# Altium schematic symbol library WCAP-PSHP.SchLib: 55 symbols (part 1 of 2)
Pins are listed as number, name and electrical type; pins without a type are passive.

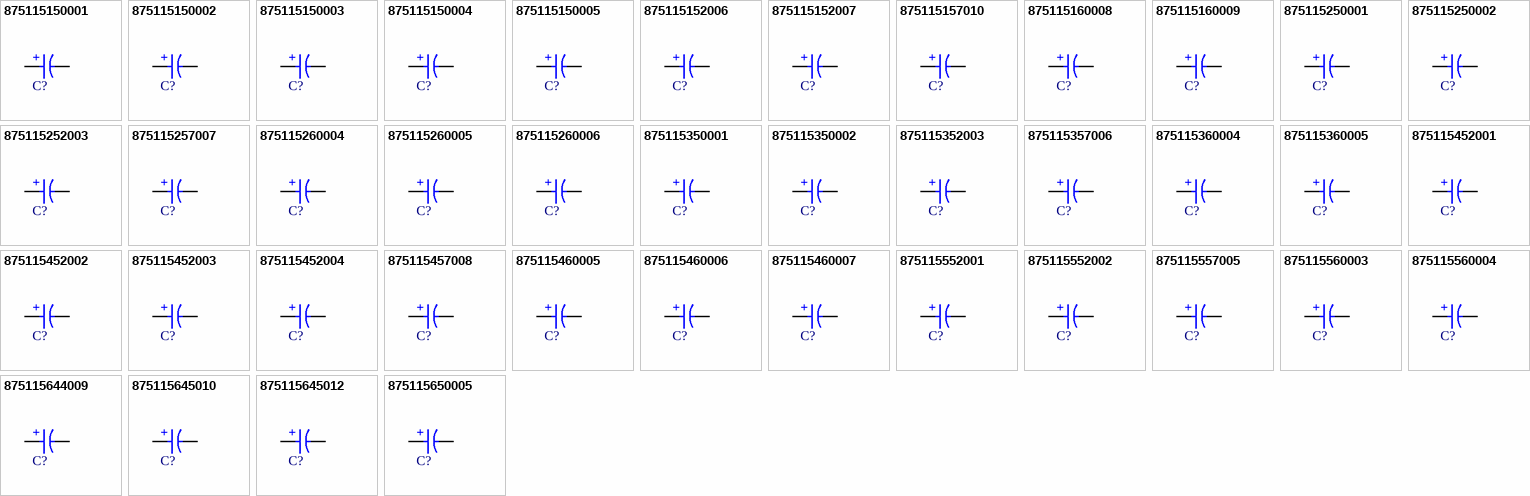
[diagram p0: symbols 875115150001 to 875115650005]

## 875115150001
designator C?, comment 220µF  (value not drawn)
WCAP-PSHP Aluminum Polymer Capacitor, V-Chip, SMT, D8 x H7.7mm, 220µF, 6.3V; Manufacturer Part Number: 875115150001; Manufacturer: Wurth Elektronik; Capacitance Tolerance: +/-20%; Dissipation Factor: 8%; Endurance: 2000h; ESR: 20mΩ; Leakage Current: 277.2µA; Ripple Current: 3500mA; Technical Reference: PSEE077221M6R3DVCTDB000; Category: Aluminum Polymer Capacitors; Match Code: WCAP-PSHP; ComponentLink1Description: Website Link; ComponentLink1URL: https://www.we-online.com/redexpert/article/875115150001?ad; ComponentLink2Description: Datasheet Link; ComponentLink2URL: https://www.we-online.com/redexpert/spec/875115150001?ad; Mount: Surface Mount; Operating Temperature Max: 105°C; Operating Temperature Min: -55°C; Packaging: Tape and Reel; Height: 7.7mm; Diameter: 8mm; Capacitance: 220µF; Rated Voltage (DC): 6.3V
footprint WCAP-PSHP_D8H7.7
simulation model 875115150001_220uF
pins: 1 P, 2 N
text: +

## 875115150002
designator C?, comment 270µF  (value not drawn)
WCAP-PSHP Aluminum Polymer Capacitor, V-Chip, SMT, D8 x H7.7mm, 270µF, 6.3V; Manufacturer Part Number: 875115150002; Manufacturer: Wurth Elektronik; Capacitance Tolerance: +/-20%; Dissipation Factor: 8%; Endurance: 2000h; ESR: 20mΩ; Leakage Current: 340.2µA; Ripple Current: 3500mA; Technical Reference: PSEE077271M6R3DVCTDB000; Category: Aluminum Polymer Capacitors; Match Code: WCAP-PSHP; ComponentLink1Description: Website Link; ComponentLink1URL: https://www.we-online.com/redexpert/article/875115150002?ad; ComponentLink2Description: Datasheet Link; ComponentLink2URL: https://www.we-online.com/redexpert/spec/875115150002?ad; Mount: Surface Mount; Operating Temperature Max: 105°C; Operating Temperature Min: -55°C; Packaging: Tape and Reel; Height: 7.7mm; Diameter: 8mm; Capacitance: 270µF; Rated Voltage (DC): 6.3V
footprint WCAP-PSHP_D8H7.7
simulation model 875115150002_270uF
pins: 1 P, 2 N
text: +

## 875115150003
designator C?, comment 330µF  (value not drawn)
WCAP-PSHP Aluminum Polymer Capacitor, V-Chip, SMT, D8 x H7.7mm, 330µF, 6.3V; Manufacturer Part Number: 875115150003; Manufacturer: Wurth Elektronik; Capacitance Tolerance: +/-20%; Dissipation Factor: 8%; Endurance: 2000h; ESR: 20mΩ; Leakage Current: 415.8µA; Ripple Current: 3500mA; Technical Reference: PSEE077331M6R3DVCTDB000; Category: Aluminum Polymer Capacitors; Match Code: WCAP-PSHP; ComponentLink1Description: Website Link; ComponentLink1URL: https://www.we-online.com/redexpert/article/875115150003?ad; ComponentLink2Description: Datasheet Link; ComponentLink2URL: https://www.we-online.com/redexpert/spec/875115150003?ad; Mount: Surface Mount; Operating Temperature Max: 105°C; Operating Temperature Min: -55°C; Packaging: Tape and Reel; Height: 7.7mm; Diameter: 8mm; Capacitance: 330µF; Rated Voltage (DC): 6.3V
footprint WCAP-PSHP_D8H7.7
simulation model 875115150003_330uF
pins: 1 P, 2 N
text: +

## 875115150004
designator C?, comment 390µF  (value not drawn)
WCAP-PSHP Aluminum Polymer Capacitor, V-Chip, SMT, D8 x H7.7mm, 390µF, 6.3V; Manufacturer Part Number: 875115150004; Manufacturer: Wurth Elektronik; Capacitance Tolerance: +/-20%; Dissipation Factor: 8%; Endurance: 2000h; ESR: 20mΩ; Leakage Current: 491µA; Ripple Current: 3500mA; Technical Reference: PSEE077391M6R3DVCTDB000; Category: Aluminum Polymer Capacitors; Match Code: WCAP-PSHP; ComponentLink1Description: Website Link; ComponentLink1URL: https://www.we-online.com/redexpert/article/875115150004?ad; ComponentLink2Description: Datasheet Link; ComponentLink2URL: https://www.we-online.com/redexpert/spec/875115150004?ad; Mount: Surface Mount; Operating Temperature Max: 105°C; Operating Temperature Min: -55°C; Packaging: Tape and Reel; Height: 7.7mm; Diameter: 8mm; Capacitance: 390µF; Rated Voltage (DC): 6.3V
footprint WCAP-PSHP_D8H7.7
simulation model 875115150004_390uF
pins: 1 P, 2 N
text: +

## 875115150005
designator C?, comment 470µF  (value not drawn)
WCAP-PSHP Aluminum Polymer Capacitor, V-Chip, SMT, D8 x H7.7mm, 470µF, 6.3V; Manufacturer Part Number: 875115150005; Manufacturer: Wurth Elektronik; Capacitance Tolerance: +/-20%; Dissipation Factor: 8%; Endurance: 2000h; ESR: 20mΩ; Leakage Current: 592µA; Ripple Current: 3500mA; Technical Reference: PSEE077471M6R3DVCTDB000; Category: Aluminum Polymer Capacitors; Match Code: WCAP-PSHP; ComponentLink1Description: Website Link; ComponentLink1URL: https://www.we-online.com/redexpert/article/875115150005?ad; ComponentLink2Description: Datasheet Link; ComponentLink2URL: https://www.we-online.com/redexpert/spec/875115150005?ad; Mount: Surface Mount; Operating Temperature Max: 105°C; Operating Temperature Min: -55°C; Packaging: Tape and Reel; Height: 7.7mm; Diameter: 8mm; Capacitance: 470µF; Rated Voltage (DC): 6.3V
footprint WCAP-PSHP_D8H7.7
simulation model 875115150005_470uF
pins: 1 P, 2 N
text: +

## 875115152006
designator C?, comment 560µF  (value not drawn)
WCAP-PSHP Aluminum Polymer Capacitor, V-Chip, SMT, D8 x H8.7mm, 560µF, 6.3V; Manufacturer Part Number: 875115152006; Manufacturer: Wurth Elektronik; Capacitance Tolerance: +/-20%; Dissipation Factor: 8%; Endurance: 2000h; ESR: 11mΩ; Leakage Current: 705.6µA; Ripple Current: 4800mA; Technical Reference: PSEE087561M6R3DVCTEB000; Category: Aluminum Polymer Capacitors; Match Code: WCAP-PSHP; ComponentLink1Description: Website Link; ComponentLink1URL: https://www.we-online.com/redexpert/article/875115152006?ad; ComponentLink2Description: Datasheet Link; ComponentLink2URL: https://www.we-online.com/redexpert/spec/875115152006?ad; Mount: Surface Mount; Operating Temperature Max: 105°C; Operating Temperature Min: -55°C; Packaging: Tape and Reel; Height: 8.7mm; Diameter: 8mm; Capacitance: 560µF; Rated Voltage (DC): 6.3V
footprint WCAP-PSHP_D8H8.7
simulation model 875115152006_560uF
pins: 1 P, 2 N
text: +

## 875115152007
designator C?, comment 680µF  (value not drawn)
WCAP-PSHP Aluminum Polymer Capacitor, V-Chip, SMT, D8 x H8.7mm, 680µF, 6.3V; Manufacturer Part Number: 875115152007; Manufacturer: Wurth Elektronik; Capacitance Tolerance: +/-20%; Dissipation Factor: 10%; Endurance: 2000h; ESR: 11mΩ; Leakage Current: 856µA; Ripple Current: 4800mA; Technical Reference: PSEE087681M6R3DVCTEB000; Category: Aluminum Polymer Capacitors; Match Code: WCAP-PSHP; ComponentLink1Description: Website Link; ComponentLink1URL: https://www.we-online.com/redexpert/article/875115152007?ad; ComponentLink2Description: Datasheet Link; ComponentLink2URL: https://www.we-online.com/redexpert/spec/875115152007?ad; Mount: Surface Mount; Operating Temperature Max: 105°C; Operating Temperature Min: -55°C; Packaging: Tape and Reel; Height: 8.7mm; Diameter: 8mm; Capacitance: 680µF; Rated Voltage (DC): 6.3V
footprint WCAP-PSHP_D8H8.7
simulation model 875115152007_680uF
pins: 1 P, 2 N
text: +

## 875115157010
designator C?, comment 1200µF  (value not drawn)
WCAP-PSHP Aluminum Polymer Capacitor, V-Chip, SMT, D10 x H10.5mm, 1200µF, 6.3V; Manufacturer Part Number: 875115157010; Manufacturer: Wurth Elektronik; Capacitance Tolerance: +/-20%; Dissipation Factor: 10%; Endurance: 2000h; ESR: 11mΩ; Leakage Current: 1260µA; Ripple Current: 5100mA; Technical Reference: PSEF105122M6R3DVCTEB000; Category: Aluminum Polymer Capacitors; Match Code: WCAP-PSHP; ComponentLink1Description: Website Link; ComponentLink1URL: https://www.we-online.com/redexpert/article/875115157010?ad; ComponentLink2Description: Datasheet Link; ComponentLink2URL: https://www.we-online.com/redexpert/spec/875115157010?ad; Mount: Surface Mount; Operating Temperature Max: 105°C; Operating Temperature Min: -55°C; Packaging: Tape and Reel; Height: 10.5mm; Diameter: 10mm; Capacitance: 1200µF; Rated Voltage (DC): 6.3V
footprint WCAP-PSHP_D10H10.5
simulation model 875115157010_1.2mF
pins: 1 P, 2 N
text: +

## 875115160008
designator C?, comment 820µF  (value not drawn)
WCAP-PSHP Aluminum Polymer Capacitor, V-Chip, SMT, D10 x H8.7mm, 820µF, 6.3V; Manufacturer Part Number: 875115160008; Manufacturer: Wurth Elektronik; Capacitance Tolerance: +/-20%; Dissipation Factor: 10%; Endurance: 2000h; ESR: 20mΩ; Leakage Current: 1033.2µA; Ripple Current: 3700mA; Technical Reference: PSEF087821M6R3DVCTEB000; Category: Aluminum Polymer Capacitors; Match Code: WCAP-PSHP; ComponentLink1Description: Website Link; ComponentLink1URL: https://www.we-online.com/redexpert/article/875115160008?ad; ComponentLink2Description: Datasheet Link; ComponentLink2URL: https://www.we-online.com/redexpert/spec/875115160008?ad; Mount: Surface Mount; Operating Temperature Max: 105°C; Operating Temperature Min: -55°C; Packaging: Tape and Reel; Height: 8.7mm; Diameter: 10mm; Capacitance: 820µF; Rated Voltage (DC): 6.3V
footprint WCAP-PSHP_D10H8.7
simulation model 875115160008_820uF
pins: 1 P, 2 N
text: +

## 875115160009
designator C?, comment 1000µF  (value not drawn)
WCAP-PSHP Aluminum Polymer Capacitor, V-Chip, SMT, D10 x H8.7mm, 1000µF, 6.3V; Manufacturer Part Number: 875115160009; Manufacturer: Wurth Elektronik; Capacitance Tolerance: +/-20%; Dissipation Factor: 10%; Endurance: 2000h; ESR: 20mΩ; Leakage Current: 1260µA; Ripple Current: 3700mA; Technical Reference: PSEF087102M6R3DVCTEB000; Category: Aluminum Polymer Capacitors; Match Code: WCAP-PSHP; ComponentLink1Description: Website Link; ComponentLink1URL: https://www.we-online.com/redexpert/article/875115160009?ad; ComponentLink2Description: Datasheet Link; ComponentLink2URL: https://www.we-online.com/redexpert/spec/875115160009?ad; Mount: Surface Mount; Operating Temperature Max: 105°C; Operating Temperature Min: -55°C; Packaging: Tape and Reel; Height: 8.7mm; Diameter: 10mm; Capacitance: 1000µF; Rated Voltage (DC): 6.3V
footprint WCAP-PSHP_D10H8.7
simulation model 875115160009_1mF
pins: 1 P, 2 N
text: +

## 875115250001
designator C?, comment 330µF  (value not drawn)
WCAP-PSHP Aluminum Polymer Capacitor, V-Chip, SMT, D8 x H7.7mm, 330µF, 10V; Manufacturer Part Number: 875115250001; Manufacturer: Wurth Elektronik; Capacitance Tolerance: +/-20%; Dissipation Factor: 8%; Endurance: 2000h; ESR: 20mΩ; Leakage Current: 660µA; Ripple Current: 3500mA; Technical Reference: PSEE077331M010DVCTDB000; Category: Aluminum Polymer Capacitors; Match Code: WCAP-PSHP; ComponentLink1Description: Website Link; ComponentLink1URL: https://www.we-online.com/redexpert/article/875115250001?ad; ComponentLink2Description: Datasheet Link; ComponentLink2URL: https://www.we-online.com/redexpert/spec/875115250001?ad; Mount: Surface Mount; Operating Temperature Max: 105°C; Operating Temperature Min: -55°C; Packaging: Tape and Reel; Height: 7.7mm; Diameter: 8mm; Capacitance: 330µF; Rated Voltage (DC): 10V
footprint WCAP-PSHP_D8H7.7
simulation model 875115250001_330uF
pins: 1 P, 2 N
text: +

## 875115250002
designator C?, comment 390µF  (value not drawn)
WCAP-PSHP Aluminum Polymer Capacitor, V-Chip, SMT, D8 x H7.7mm, 390µF, 10V; Manufacturer Part Number: 875115250002; Manufacturer: Wurth Elektronik; Capacitance Tolerance: +/-20%; Dissipation Factor: 8%; Endurance: 2000h; ESR: 20mΩ; Leakage Current: 780µA; Ripple Current: 3500mA; Technical Reference: PSEE077391M010DVCTDB000; Category: Aluminum Polymer Capacitors; Match Code: WCAP-PSHP; ComponentLink1Description: Website Link; ComponentLink1URL: https://www.we-online.com/redexpert/article/875115250002?ad; ComponentLink2Description: Datasheet Link; ComponentLink2URL: https://www.we-online.com/redexpert/spec/875115250002?ad; Mount: Surface Mount; Operating Temperature Max: 105°C; Operating Temperature Min: -55°C; Packaging: Tape and Reel; Height: 7.7mm; Diameter: 8mm; Capacitance: 390µF; Rated Voltage (DC): 10V
footprint WCAP-PSHP_D8H7.7
simulation model 875115250002_390uF
pins: 1 P, 2 N
text: +

## 875115252003
designator C?, comment 470µF  (value not drawn)
WCAP-PSHP Aluminum Polymer Capacitor, V-Chip, SMT, D8 x H8.7mm, 470µF, 10V; Manufacturer Part Number: 875115252003; Manufacturer: Wurth Elektronik; Capacitance Tolerance: +/-20%; Dissipation Factor: 8%; Endurance: 2000h; ESR: 11mΩ; Leakage Current: 940µA; Ripple Current: 4800mA; Technical Reference: PSEE087471M010DVCTEB000; Category: Aluminum Polymer Capacitors; Match Code: WCAP-PSHP; ComponentLink1Description: Website Link; ComponentLink1URL: https://www.we-online.com/redexpert/article/875115252003?ad; ComponentLink2Description: Datasheet Link; ComponentLink2URL: https://www.we-online.com/redexpert/spec/875115252003?ad; Mount: Surface Mount; Operating Temperature Max: 105°C; Operating Temperature Min: -55°C; Packaging: Tape and Reel; Height: 8.7mm; Diameter: 8mm; Capacitance: 470µF; Rated Voltage (DC): 10V
footprint WCAP-PSHP_D8H8.7
simulation model 875115252003_470uF
pins: 1 P, 2 N
text: +

## 875115257007
designator C?, comment 820µF  (value not drawn)
WCAP-PSHP Aluminum Polymer Capacitor, V-Chip, SMT, D10 x H10.5mm, 820µF, 10V; Manufacturer Part Number: 875115257007; Manufacturer: Wurth Elektronik; Capacitance Tolerance: +/-20%; Dissipation Factor: 10%; Endurance: 2000h; ESR: 11mΩ; Leakage Current: 1640µA; Ripple Current: 5100mA; Technical Reference: PSEF105821M010DVCTEB000; Category: Aluminum Polymer Capacitors; Match Code: WCAP-PSHP; ComponentLink1Description: Website Link; ComponentLink1URL: https://www.we-online.com/redexpert/article/875115257007?ad; ComponentLink2Description: Datasheet Link; ComponentLink2URL: https://www.we-online.com/redexpert/spec/875115257007?ad; Mount: Surface Mount; Operating Temperature Max: 105°C; Operating Temperature Min: -55°C; Packaging: Tape and Reel; Height: 10.5mm; Diameter: 10mm; Capacitance: 820µF; Rated Voltage (DC): 10V
footprint WCAP-PSHP_D10H10.5
simulation model 875115257007_820uF
pins: 1 P, 2 N
text: +

## 875115260004
designator C?, comment 470µF  (value not drawn)
WCAP-PSHP Aluminum Polymer Capacitor, V-Chip, SMT, D10 x H8.7mm, 470µF, 10V; Manufacturer Part Number: 875115260004; Manufacturer: Wurth Elektronik; Capacitance Tolerance: +/-20%; Dissipation Factor: 8%; Endurance: 2000h; ESR: 20mΩ; Leakage Current: 940µA; Ripple Current: 3700mA; Technical Reference: PSEF087471M010DVCTEB000; Category: Aluminum Polymer Capacitors; Match Code: WCAP-PSHP; ComponentLink1Description: Website Link; ComponentLink1URL: https://www.we-online.com/redexpert/article/875115260004?ad; ComponentLink2Description: Datasheet Link; ComponentLink2URL: https://www.we-online.com/redexpert/spec/875115260004?ad; Mount: Surface Mount; Operating Temperature Max: 105°C; Operating Temperature Min: -55°C; Packaging: Tape and Reel; Height: 8.7mm; Diameter: 10mm; Capacitance: 470µF; Rated Voltage (DC): 10V
footprint WCAP-PSHP_D10H8.7
simulation model 875115260004_470uF
pins: 1 P, 2 N
text: +

## 875115260005
designator C?, comment 560µF  (value not drawn)
WCAP-PSHP Aluminum Polymer Capacitor, V-Chip, SMT, D10 x H8.7mm, 560µF, 10V; Manufacturer Part Number: 875115260005; Manufacturer: Wurth Elektronik; Capacitance Tolerance: +/-20%; Dissipation Factor: 8%; Endurance: 2000h; ESR: 20mΩ; Leakage Current: 1120µA; Ripple Current: 3700mA; Technical Reference: PSEF087561M010DVCTEB000; Category: Aluminum Polymer Capacitors; Match Code: WCAP-PSHP; ComponentLink1Description: Website Link; ComponentLink1URL: https://www.we-online.com/redexpert/article/875115260005?ad; ComponentLink2Description: Datasheet Link; ComponentLink2URL: https://www.we-online.com/redexpert/spec/875115260005?ad; Mount: Surface Mount; Operating Temperature Max: 105°C; Operating Temperature Min: -55°C; Packaging: Tape and Reel; Height: 8.7mm; Diameter: 10mm; Capacitance: 560µF; Rated Voltage (DC): 10V
footprint WCAP-PSHP_D10H8.7
simulation model 875115260005_560uF
pins: 1 P, 2 N
text: +

## 875115260006
designator C?, comment 680µF  (value not drawn)
WCAP-PSHP Aluminum Polymer Capacitor, V-Chip, SMT, D10 x H8.7mm, 680µF, 10V; Manufacturer Part Number: 875115260006; Manufacturer: Wurth Elektronik; Capacitance Tolerance: +/-20%; Dissipation Factor: 10%; Endurance: 2000h; ESR: 20mΩ; Leakage Current: 1360µA; Ripple Current: 3700mA; Technical Reference: PSEF087681M010DVCTEB000; Category: Aluminum Polymer Capacitors; Match Code: WCAP-PSHP; ComponentLink1Description: Website Link; ComponentLink1URL: https://www.we-online.com/redexpert/article/875115260006?ad; ComponentLink2Description: Datasheet Link; ComponentLink2URL: https://www.we-online.com/redexpert/spec/875115260006?ad; Mount: Surface Mount; Operating Temperature Max: 105°C; Operating Temperature Min: -55°C; Packaging: Tape and Reel; Height: 8.7mm; Diameter: 10mm; Capacitance: 680µF; Rated Voltage (DC): 10V
footprint WCAP-PSHP_D10H8.7
simulation model 875115260006_680uF
pins: 1 P, 2 N
text: +

## 875115350001
designator C?, comment 180µF  (value not drawn)
WCAP-PSHP Aluminum Polymer Capacitor, V-Chip, SMT, D8 x H7.7mm, 180µF, 16V; Manufacturer Part Number: 875115350001; Manufacturer: Wurth Elektronik; Capacitance Tolerance: +/-20%; Dissipation Factor: 8%; Endurance: 2000h; ESR: 20mΩ; Leakage Current: 288µA; Ripple Current: 3500mA; Technical Reference: PSEE077181M016DVCTDB000; Category: Aluminum Polymer Capacitors; Match Code: WCAP-PSHP; ComponentLink1Description: Website Link; ComponentLink1URL: https://www.we-online.com/redexpert/article/875115350001?ad; ComponentLink2Description: Datasheet Link; ComponentLink2URL: https://www.we-online.com/redexpert/spec/875115350001?ad; Mount: Surface Mount; Operating Temperature Max: 105°C; Operating Temperature Min: -55°C; Packaging: Tape and Reel; Height: 7.7mm; Diameter: 8mm; Capacitance: 180µF; Rated Voltage (DC): 16V
footprint WCAP-PSHP_D8H7.7
simulation model 875115350001_180uF
pins: 1 P, 2 N
text: +

## 875115350002
designator C?, comment 220µF  (value not drawn)
WCAP-PSHP Aluminum Polymer Capacitor, V-Chip, SMT, D8 x H7.7mm, 220µF, 16V; Manufacturer Part Number: 875115350002; Manufacturer: Wurth Elektronik; Capacitance Tolerance: +/-20%; Dissipation Factor: 8%; Endurance: 2000h; ESR: 20mΩ; Leakage Current: 352µA; Ripple Current: 3500mA; Technical Reference: PSEE077221M016DVCTDB000; Category: Aluminum Polymer Capacitors; Match Code: WCAP-PSHP; ComponentLink1Description: Website Link; ComponentLink1URL: https://www.we-online.com/redexpert/article/875115350002?ad; ComponentLink2Description: Datasheet Link; ComponentLink2URL: https://www.we-online.com/redexpert/spec/875115350002?ad; Mount: Surface Mount; Operating Temperature Max: 105°C; Operating Temperature Min: -55°C; Packaging: Tape and Reel; Height: 7.7mm; Diameter: 8mm; Capacitance: 220µF; Rated Voltage (DC): 16V
footprint WCAP-PSHP_D8H7.7
simulation model 875115350002_220uF
pins: 1 P, 2 N
text: +

## 875115352003
designator C?, comment 270µF  (value not drawn)
WCAP-PSHP Aluminum Polymer Capacitor, V-Chip, SMT, D8 x H8.7mm, 270µF, 16V; Manufacturer Part Number: 875115352003; Manufacturer: Wurth Elektronik; Capacitance Tolerance: +/-20%; Dissipation Factor: 10%; Endurance: 2000h; ESR: 11mΩ; Leakage Current: 432µA; Ripple Current: 4800mA; Technical Reference: PSEE087271M016DVCTEB000; Category: Aluminum Polymer Capacitors; Match Code: WCAP-PSHP; ComponentLink1Description: Website Link; ComponentLink1URL: https://www.we-online.com/redexpert/article/875115352003?ad; ComponentLink2Description: Datasheet Link; ComponentLink2URL: https://www.we-online.com/redexpert/spec/875115352003?ad; Mount: Surface Mount; Operating Temperature Max: 105°C; Operating Temperature Min: -55°C; Packaging: Tape and Reel; Height: 8.7mm; Diameter: 8mm; Capacitance: 270µF; Rated Voltage (DC): 16V
footprint WCAP-PSHP_D8H8.7
simulation model 875115352003_270uF
pins: 1 P, 2 N
text: +

## 875115357006
designator C?, comment 470µF  (value not drawn)
WCAP-PSHP Aluminum Polymer Capacitor, V-Chip, SMT, D10 x H10.5mm, 470µF, 16V; Manufacturer Part Number: 875115357006; Manufacturer: Wurth Elektronik; Capacitance Tolerance: +/-20%; Dissipation Factor: 10%; Endurance: 2000h; ESR: 11mΩ; Leakage Current: 752µA; Ripple Current: 5100mA; Technical Reference: PSEF105471M016DVCTEB000; Category: Aluminum Polymer Capacitors; Match Code: WCAP-PSHP; ComponentLink1Description: Website Link; ComponentLink1URL: https://www.we-online.com/redexpert/article/875115357006?ad; ComponentLink2Description: Datasheet Link; ComponentLink2URL: https://www.we-online.com/redexpert/spec/875115357006?ad; Mount: Surface Mount; Operating Temperature Max: 105°C; Operating Temperature Min: -55°C; Packaging: Tape and Reel; Height: 10.5mm; Diameter: 10mm; Capacitance: 470µF; Rated Voltage (DC): 16V
footprint WCAP-PSHP_D10H10.5
simulation model 875115357006_470uF
pins: 1 P, 2 N
text: +

## 875115360004
designator C?, comment 330µF  (value not drawn)
WCAP-PSHP Aluminum Polymer Capacitor, V-Chip, SMT, D10 x H8.7mm, 330µF, 16V; Manufacturer Part Number: 875115360004; Manufacturer: Wurth Elektronik; Capacitance Tolerance: +/-20%; Dissipation Factor: 10%; Endurance: 2000h; ESR: 20mΩ; Leakage Current: 528µA; Ripple Current: 3700mA; Technical Reference: PSEF087331M016DVCTEB000; Category: Aluminum Polymer Capacitors; Match Code: WCAP-PSHP; ComponentLink1Description: Website Link; ComponentLink1URL: https://www.we-online.com/redexpert/article/875115360004?ad; ComponentLink2Description: Datasheet Link; ComponentLink2URL: https://www.we-online.com/redexpert/spec/875115360004?ad; Mount: Surface Mount; Operating Temperature Max: 105°C; Operating Temperature Min: -55°C; Packaging: Tape and Reel; Height: 8.7mm; Diameter: 10mm; Capacitance: 330µF; Rated Voltage (DC): 16V
footprint WCAP-PSHP_D10H8.7
simulation model 875115360004_330uF
pins: 1 P, 2 N
text: +

## 875115360005
designator C?, comment 390µF  (value not drawn)
WCAP-PSHP Aluminum Polymer Capacitor, V-Chip, SMT, D10 x H8.7mm, 390µF, 16V; Manufacturer Part Number: 875115360005; Manufacturer: Wurth Elektronik; Capacitance Tolerance: +/-20%; Dissipation Factor: 10%; Endurance: 2000h; ESR: 20mΩ; Leakage Current: 624µA; Ripple Current: 3700mA; Technical Reference: PSEF087391M016DVCTEB000; Category: Aluminum Polymer Capacitors; Match Code: WCAP-PSHP; ComponentLink1Description: Website Link; ComponentLink1URL: https://www.we-online.com/redexpert/article/875115360005?ad; ComponentLink2Description: Datasheet Link; ComponentLink2URL: https://www.we-online.com/redexpert/spec/875115360005?ad; Mount: Surface Mount; Operating Temperature Max: 105°C; Operating Temperature Min: -55°C; Packaging: Tape and Reel; Height: 8.7mm; Diameter: 10mm; Capacitance: 390µF; Rated Voltage (DC): 16V
footprint WCAP-PSHP_D10H8.7
simulation model 875115360005_390uF
pins: 1 P, 2 N
text: +

## 875115452001
designator C?, comment 68µF  (value not drawn)
WCAP-PSHP Aluminum Polymer Capacitor, V-Chip, SMT, D8 x H8.7mm, 68µF, 20V; Manufacturer Part Number: 875115452001; Manufacturer: Wurth Elektronik; Capacitance Tolerance: +/-20%; Dissipation Factor: 8%; Endurance: 2000h; ESR: 20mΩ; Leakage Current: 272µA; Ripple Current: 3500mA; Technical Reference: PSEE087680M020DVCTEB000; Category: Aluminum Polymer Capacitors; Match Code: WCAP-PSHP; ComponentLink1Description: Website Link; ComponentLink1URL: https://www.we-online.com/redexpert/article/875115452001?ad; ComponentLink2Description: Datasheet Link; ComponentLink2URL: https://www.we-online.com/redexpert/spec/875115452001?ad; Mount: Surface Mount; Operating Temperature Max: 105°C; Operating Temperature Min: -55°C; Packaging: Tape and Reel; Height: 8.7mm; Diameter: 8mm; Capacitance: 68µF; Rated Voltage (DC): 20V
footprint WCAP-PSHP_D8H8.7
simulation model 875115452001_68uF
pins: 1 P, 2 N
text: +

## 875115452002
designator C?, comment 82µF  (value not drawn)
WCAP-PSHP Aluminum Polymer Capacitor, V-Chip, SMT, D8 x H8.7mm, 82µF, 20V; Manufacturer Part Number: 875115452002; Manufacturer: Wurth Elektronik; Capacitance Tolerance: +/-20%; Dissipation Factor: 8%; Endurance: 2000h; ESR: 20mΩ; Leakage Current: 328µA; Ripple Current: 3500mA; Technical Reference: PSEE087820M020DVCTEB000; Category: Aluminum Polymer Capacitors; Match Code: WCAP-PSHP; ComponentLink1Description: Website Link; ComponentLink1URL: https://www.we-online.com/redexpert/article/875115452002?ad; ComponentLink2Description: Datasheet Link; ComponentLink2URL: https://www.we-online.com/redexpert/spec/875115452002?ad; Mount: Surface Mount; Operating Temperature Max: 105°C; Operating Temperature Min: -55°C; Packaging: Tape and Reel; Height: 8.7mm; Diameter: 8mm; Capacitance: 82µF; Rated Voltage (DC): 20V
footprint WCAP-PSHP_D8H8.7
simulation model 875115452002_82uF
pins: 1 P, 2 N
text: +

## 875115452003
designator C?, comment 100µF  (value not drawn)
WCAP-PSHP Aluminum Polymer Capacitor, V-Chip, SMT, D8 x H8.7mm, 100µF, 20V; Manufacturer Part Number: 875115452003; Manufacturer: Wurth Elektronik; Capacitance Tolerance: +/-20%; Dissipation Factor: 8%; Endurance: 2000h; ESR: 20mΩ; Leakage Current: 400µA; Ripple Current: 3500mA; Technical Reference: PSEE087101M020DVCTEB000; Category: Aluminum Polymer Capacitors; Match Code: WCAP-PSHP; ComponentLink1Description: Website Link; ComponentLink1URL: https://www.we-online.com/redexpert/article/875115452003?ad; ComponentLink2Description: Datasheet Link; ComponentLink2URL: https://www.we-online.com/redexpert/spec/875115452003?ad; Mount: Surface Mount; Operating Temperature Max: 105°C; Operating Temperature Min: -55°C; Packaging: Tape and Reel; Height: 8.7mm; Diameter: 8mm; Capacitance: 100µF; Rated Voltage (DC): 20V
footprint WCAP-PSHP_D8H8.7
simulation model 875115452003_100uF
pins: 1 P, 2 N
text: +

## 875115452004
designator C?, comment 150µF  (value not drawn)
WCAP-PSHP Aluminum Polymer Capacitor, V-Chip, SMT, D8 x H8.7mm, 150µF, 20V; Manufacturer Part Number: 875115452004; Manufacturer: Wurth Elektronik; Capacitance Tolerance: +/-20%; Dissipation Factor: 10%; Endurance: 2000h; ESR: 20mΩ; Leakage Current: 600µA; Ripple Current: 3500mA; Technical Reference: PSEE087151M020DVCTEB000; Category: Aluminum Polymer Capacitors; Match Code: WCAP-PSHP; ComponentLink1Description: Website Link; ComponentLink1URL: https://www.we-online.com/redexpert/article/875115452004?ad; ComponentLink2Description: Datasheet Link; ComponentLink2URL: https://www.we-online.com/redexpert/spec/875115452004?ad; Mount: Surface Mount; Operating Temperature Max: 105°C; Operating Temperature Min: -55°C; Packaging: Tape and Reel; Height: 8.7mm; Diameter: 8mm; Capacitance: 150µF; Rated Voltage (DC): 20V
footprint WCAP-PSHP_D8H8.7
simulation model 875115452004_150uF
pins: 1 P, 2 N
text: +

## 875115457008
designator C?, comment 270µF  (value not drawn)
WCAP-PSHP Aluminum Polymer Capacitor, V-Chip, SMT, D10 x H10.5mm, 270µF, 20V; Manufacturer Part Number: 875115457008; Manufacturer: Wurth Elektronik; Capacitance Tolerance: +/-20%; Dissipation Factor: 10%; Endurance: 2000h; ESR: 20mΩ; Leakage Current: 1080µA; Ripple Current: 3700mA; Technical Reference: PSEF105271M020DVCTEB000; Category: Aluminum Polymer Capacitors; Match Code: WCAP-PSHP; ComponentLink1Description: Website Link; ComponentLink1URL: https://www.we-online.com/redexpert/article/875115457008?ad; ComponentLink2Description: Datasheet Link; ComponentLink2URL: https://www.we-online.com/redexpert/spec/875115457008?ad; Mount: Surface Mount; Operating Temperature Max: 105°C; Operating Temperature Min: -55°C; Packaging: Tape and Reel; Height: 10.5mm; Diameter: 10mm; Capacitance: 270µF; Rated Voltage (DC): 20V
footprint WCAP-PSHP_D10H10.5
simulation model 875115457008_270uF
pins: 1 P, 2 N
text: +

## 875115460005
designator C?, comment 150µF  (value not drawn)
WCAP-PSHP Aluminum Polymer Capacitor, V-Chip, SMT, D10 x H8.7mm, 150µF, 20V; Manufacturer Part Number: 875115460005; Manufacturer: Wurth Elektronik; Capacitance Tolerance: +/-20%; Dissipation Factor: 10%; Endurance: 2000h; ESR: 25mΩ; Leakage Current: 600µA; Ripple Current: 3100mA; Technical Reference: PSEF087151M020DVCTEB000; Category: Aluminum Polymer Capacitors; Match Code: WCAP-PSHP; ComponentLink1Description: Website Link; ComponentLink1URL: https://www.we-online.com/redexpert/article/875115460005?ad; ComponentLink2Description: Datasheet Link; ComponentLink2URL: https://www.we-online.com/redexpert/spec/875115460005?ad; Mount: Surface Mount; Operating Temperature Max: 105°C; Operating Temperature Min: -55°C; Packaging: Tape and Reel; Height: 8.7mm; Diameter: 10mm; Capacitance: 150µF; Rated Voltage (DC): 20V
footprint WCAP-PSHP_D10H8.7
simulation model 875115460005_150uF
pins: 1 P, 2 N
text: +

## 875115460006
designator C?, comment 180µF  (value not drawn)
WCAP-PSHP Aluminum Polymer Capacitor, V-Chip, SMT, D10 x H8.7mm, 180µF, 20V; Manufacturer Part Number: 875115460006; Manufacturer: Wurth Elektronik; Capacitance Tolerance: +/-20%; Dissipation Factor: 10%; Endurance: 2000h; ESR: 25mΩ; Leakage Current: 720µA; Ripple Current: 3100mA; Technical Reference: PSEF087181M020DVCTEB000; Category: Aluminum Polymer Capacitors; Match Code: WCAP-PSHP; ComponentLink1Description: Website Link; ComponentLink1URL: https://www.we-online.com/redexpert/article/875115460006?ad; ComponentLink2Description: Datasheet Link; ComponentLink2URL: https://www.we-online.com/redexpert/spec/875115460006?ad; Mount: Surface Mount; Operating Temperature Max: 105°C; Operating Temperature Min: -55°C; Packaging: Tape and Reel; Height: 8.7mm; Diameter: 10mm; Capacitance: 180µF; Rated Voltage (DC): 20V
footprint WCAP-PSHP_D10H8.7
simulation model 875115460006_180uF
pins: 1 P, 2 N
text: +

## 875115460007
designator C?, comment 220µF  (value not drawn)
WCAP-PSHP Aluminum Polymer Capacitor, V-Chip, SMT, D10 x H8.7mm, 220µF, 20V; Manufacturer Part Number: 875115460007; Manufacturer: Wurth Elektronik; Capacitance Tolerance: +/-20%; Dissipation Factor: 10%; Endurance: 2000h; ESR: 25mΩ; Leakage Current: 880µA; Ripple Current: 3100mA; Technical Reference: PSEF087221M020DVCTEB000; Category: Aluminum Polymer Capacitors; Match Code: WCAP-PSHP; ComponentLink1Description: Website Link; ComponentLink1URL: https://www.we-online.com/redexpert/article/875115460007?ad; ComponentLink2Description: Datasheet Link; ComponentLink2URL: https://www.we-online.com/redexpert/spec/875115460007?ad; Mount: Surface Mount; Operating Temperature Max: 105°C; Operating Temperature Min: -55°C; Packaging: Tape and Reel; Height: 8.7mm; Diameter: 10mm; Capacitance: 220µF; Rated Voltage (DC): 20V
footprint WCAP-PSHP_D10H8.7
simulation model 875115460007_220uF
pins: 1 P, 2 N
text: +

## 875115552001
designator C?, comment 68µF  (value not drawn)
WCAP-PSHP Aluminum Polymer Capacitor, V-Chip, SMT, D8 x H8.7mm, 68µF, 25V; Manufacturer Part Number: 875115552001; Manufacturer: Wurth Elektronik; Capacitance Tolerance: +/-20%; Dissipation Factor: 8%; Endurance: 2000h; ESR: 20mΩ; Leakage Current: 340µA; Ripple Current: 3500mA; Technical Reference: PSEE087680M025DVCTEB000; Category: Aluminum Polymer Capacitors; Match Code: WCAP-PSHP; ComponentLink1Description: Website Link; ComponentLink1URL: https://www.we-online.com/redexpert/article/875115552001?ad; ComponentLink2Description: Datasheet Link; ComponentLink2URL: https://www.we-online.com/redexpert/spec/875115552001?ad; Mount: Surface Mount; Operating Temperature Max: 105°C; Operating Temperature Min: -55°C; Packaging: Tape and Reel; Height: 8.7mm; Diameter: 8mm; Capacitance: 68µF; Rated Voltage (DC): 25V
footprint WCAP-PSHP_D8H8.7
simulation model 875115552001_68uF
pins: 1 P, 2 N
text: +

## 875115552002
designator C?, comment 82µF  (value not drawn)
WCAP-PSHP Aluminum Polymer Capacitor, V-Chip, SMT, D8 x H8.7mm, 82µF, 25V; Manufacturer Part Number: 875115552002; Manufacturer: Wurth Elektronik; Capacitance Tolerance: +/-20%; Dissipation Factor: 10%; Endurance: 2000h; ESR: 20mΩ; Leakage Current: 410µA; Ripple Current: 3500mA; Technical Reference: PSEE087820M025DVCTEB000; Category: Aluminum Polymer Capacitors; Match Code: WCAP-PSHP; ComponentLink1Description: Website Link; ComponentLink1URL: https://www.we-online.com/redexpert/article/875115552002?ad; ComponentLink2Description: Datasheet Link; ComponentLink2URL: https://www.we-online.com/redexpert/spec/875115552002?ad; Mount: Surface Mount; Operating Temperature Max: 105°C; Operating Temperature Min: -55°C; Packaging: Tape and Reel; Height: 8.7mm; Diameter: 8mm; Capacitance: 82µF; Rated Voltage (DC): 25V
footprint WCAP-PSHP_D8H8.7
simulation model 875115552002_82uF
pins: 1 P, 2 N
text: +

## 875115557005
designator C?, comment 150µF  (value not drawn)
WCAP-PSHP Aluminum Polymer Capacitor, V-Chip, SMT, D10 x H10.5mm, 150µF, 25V; Manufacturer Part Number: 875115557005; Manufacturer: Wurth Elektronik; Capacitance Tolerance: +/-20%; Dissipation Factor: 10%; Endurance: 2000h; ESR: 20mΩ; Leakage Current: 750µA; Ripple Current: 3700mA; Technical Reference: PSEF105151M025DVCTEB000; Category: Aluminum Polymer Capacitors; Match Code: WCAP-PSHP; ComponentLink1Description: Website Link; ComponentLink1URL: https://www.we-online.com/redexpert/article/875115557005?ad; ComponentLink2Description: Datasheet Link; ComponentLink2URL: https://www.we-online.com/redexpert/spec/875115557005?ad; Mount: Surface Mount; Operating Temperature Max: 105°C; Operating Temperature Min: -55°C; Packaging: Tape and Reel; Height: 10.5mm; Diameter: 10mm; Capacitance: 150µF; Rated Voltage (DC): 25V
footprint WCAP-PSHP_D10H10.5
simulation model 875115557005_150uF
pins: 1 P, 2 N
text: +

## 875115560003
designator C?, comment 82µF  (value not drawn)
WCAP-PSHP Aluminum Polymer Capacitor, V-Chip, SMT, D10 x H8.7mm, 82µF, 25V; Manufacturer Part Number: 875115560003; Manufacturer: Wurth Elektronik; Capacitance Tolerance: +/-20%; Dissipation Factor: 10%; Endurance: 2000h; ESR: 25mΩ; Leakage Current: 410µA; Ripple Current: 3100mA; Technical Reference: PSEF087820M025DVCTEB000; Category: Aluminum Polymer Capacitors; Match Code: WCAP-PSHP; ComponentLink1Description: Website Link; ComponentLink1URL: https://www.we-online.com/redexpert/article/875115560003?ad; ComponentLink2Description: Datasheet Link; ComponentLink2URL: https://www.we-online.com/redexpert/spec/875115560003?ad; Mount: Surface Mount; Operating Temperature Max: 105°C; Operating Temperature Min: -55°C; Packaging: Tape and Reel; Height: 8.7mm; Diameter: 10mm; Capacitance: 82µF; Rated Voltage (DC): 25V
footprint WCAP-PSHP_D10H8.7
simulation model 875115560003_82uF
pins: 1 P, 2 N
text: +

## 875115560004
designator C?, comment 100µF  (value not drawn)
WCAP-PSHP Aluminum Polymer Capacitor, V-Chip, SMT, D10 x H8.7mm, 100µF, 25V; Manufacturer Part Number: 875115560004; Manufacturer: Wurth Elektronik; Capacitance Tolerance: +/-20%; Dissipation Factor: 10%; Endurance: 2000h; ESR: 25mΩ; Leakage Current: 500µA; Ripple Current: 3100mA; Technical Reference: PSEF087101M025DVCTEB000; Category: Aluminum Polymer Capacitors; Match Code: WCAP-PSHP; ComponentLink1Description: Website Link; ComponentLink1URL: https://www.we-online.com/redexpert/article/875115560004?ad; ComponentLink2Description: Datasheet Link; ComponentLink2URL: https://www.we-online.com/redexpert/spec/875115560004?ad; Mount: Surface Mount; Operating Temperature Max: 105°C; Operating Temperature Min: -55°C; Packaging: Tape and Reel; Height: 8.7mm; Diameter: 10mm; Capacitance: 100µF; Rated Voltage (DC): 25V
footprint WCAP-PSHP_D10H8.7
simulation model 875115560004_100uF
pins: 1 P, 2 N
text: +

## 875115644009
designator C?, comment 10µF  (value not drawn)
WCAP-PSHP Aluminum Polymer Capacitor, V-Chip, SMT, D6.3 x H5.8mm, 10µF, 35V; Manufacturer Part Number: 875115644009; Manufacturer: Wurth Elektronik; Capacitance Tolerance: +/-20%; Dissipation Factor: 12%; Endurance: 5000h; ESR: 75mΩ; Leakage Current: 600µA; Ripple Current: 980mA; Technical Reference: PSED058100M035DVCTBE000; Category: Aluminum Polymer Capacitors; Match Code: WCAP-PSHP; ComponentLink1Description: Website Link; ComponentLink1URL: https://www.we-online.com/redexpert/article/875115644009?ad; ComponentLink2Description: Datasheet Link; ComponentLink2URL: https://www.we-online.com/redexpert/spec/875115644009?ad; Mount: Surface Mount; Operating Temperature Max: 105°C; Operating Temperature Min: -55°C; Packaging: Tape and Reel; Height: 5.8mm; Diameter: 6.3mm; Capacitance: 10µF; Rated Voltage (DC): 35V
footprint WCAP-PSHP_D6.3H5.8
simulation model 875115644009_10uF
pins: 1 P, 2 N
text: +

## 875115645010
designator C?, comment 18µF  (value not drawn)
WCAP-PSHP Aluminum Polymer Capacitor, V-Chip, SMT, D6.3 x H7.7mm, 18µF, 35V; Manufacturer Part Number: 875115645010; Manufacturer: Wurth Elektronik; Capacitance Tolerance: +/-20%; Dissipation Factor: 12%; Endurance: 5000h; ESR: 60mΩ; Leakage Current: 600µA; Ripple Current: 1400mA; Technical Reference: PSED077180M035DVCTCE000; Category: Aluminum Polymer Capacitors; Match Code: WCAP-PSHP; ComponentLink1Description: Website Link; ComponentLink1URL: https://www.we-online.com/redexpert/article/875115645010?ad; ComponentLink2Description: Datasheet Link; ComponentLink2URL: https://www.we-online.com/redexpert/spec/875115645010?ad; Mount: Surface Mount; Operating Temperature Max: 105°C; Operating Temperature Min: -55°C; Packaging: Tape and Reel; Height: 7.7mm; Diameter: 6.3mm; Capacitance: 18µF; Rated Voltage (DC): 35V
footprint WCAP-PSHP_D6.3H7.7
simulation model 875115645010_18uF
pins: 1 P, 2 N
text: +

## 875115645012
designator C?, comment 27µF  (value not drawn)
WCAP-PSHP Aluminum Polymer Capacitor, V-Chip, SMT, D6.3 x H7.7mm, 27µF, 35V; Manufacturer Part Number: 875115645012; Manufacturer: Wurth Elektronik; Capacitance Tolerance: +/-20%; Dissipation Factor: 12%; Endurance: 5000h; ESR: 60mΩ; Leakage Current: 600µA; Ripple Current: 1400mA; Technical Reference: PSED077270M035DVCTCE000; Category: Aluminum Polymer Capacitors; Match Code: WCAP-PSHP; ComponentLink1Description: Website Link; ComponentLink1URL: https://www.we-online.com/redexpert/article/875115645012?ad; ComponentLink2Description: Datasheet Link; ComponentLink2URL: https://www.we-online.com/redexpert/spec/875115645012?ad; Mount: Surface Mount; Operating Temperature Max: 105°C; Operating Temperature Min: -55°C; Packaging: Tape and Reel; Height: 7.7mm; Diameter: 6.3mm; Capacitance: 27µF; Rated Voltage (DC): 35V
footprint WCAP-PSHP_D6.3H7.7
simulation model 875115645012_27uF
pins: 1 P, 2 N
text: +

## 875115650005
designator C?, comment 56µF  (value not drawn)
WCAP-PSHP Aluminum Polymer Capacitor, V-Chip, SMT, D8 x H7.7mm, 56µF, 35V; Manufacturer Part Number: 875115650005; Manufacturer: Wurth Elektronik; Capacitance Tolerance: +/-20%; Dissipation Factor: 12%; Endurance: 2000h; ESR: 40mΩ; Leakage Current: 392µA; Ripple Current: 2200mA; Technical Reference: PSEE077560M035DVCTDB000; Category: Aluminum Polymer Capacitors; Match Code: WCAP-PSHP; ComponentLink1Description: Website Link; ComponentLink1URL: https://www.we-online.com/redexpert/article/875115650005?ad; ComponentLink2Description: Datasheet Link; ComponentLink2URL: https://www.we-online.com/redexpert/spec/875115650005?ad; Mount: Surface Mount; Operating Temperature Max: 105°C; Operating Temperature Min: -55°C; Packaging: Tape and Reel; Height: 7.7mm; Diameter: 8mm; Capacitance: 56µF; Rated Voltage (DC): 35V
footprint WCAP-PSHP_D8H7.7
simulation model 875115650005_56uF
pins: 1 P, 2 N
text: +

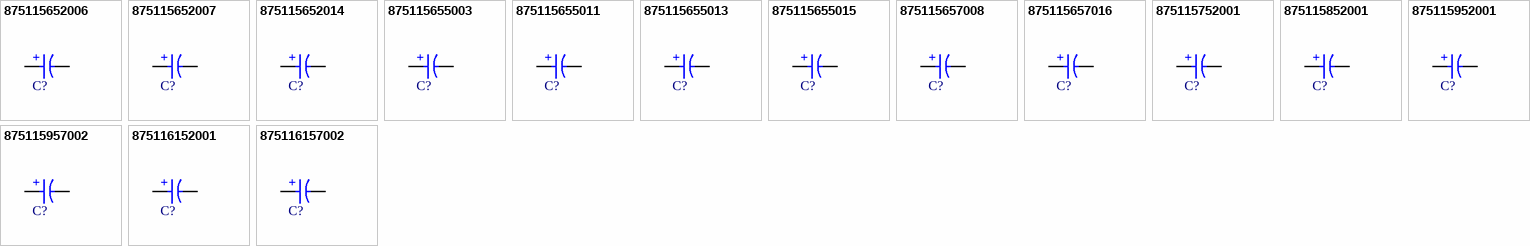
[diagram p1: symbols 875115652006 to 875116157002]

## 875115652006
designator C?, comment 82µF  (value not drawn)
WCAP-PSHP Aluminum Polymer Capacitor, V-Chip, SMT, D8 x H8.7mm, 82µF, 35V; Manufacturer Part Number: 875115652006; Manufacturer: Wurth Elektronik; Capacitance Tolerance: +/-20%; Dissipation Factor: 12%; Endurance: 2000h; ESR: 35mΩ; Leakage Current: 574µA; Ripple Current: 2600mA; Technical Reference: PSEE087820M035DVCTEB000; Category: Aluminum Polymer Capacitors; Match Code: WCAP-PSHP; ComponentLink1Description: Website Link; ComponentLink1URL: https://www.we-online.com/redexpert/article/875115652006?ad; ComponentLink2Description: Datasheet Link; ComponentLink2URL: https://www.we-online.com/redexpert/spec/875115652006?ad; Mount: Surface Mount; Operating Temperature Max: 105°C; Operating Temperature Min: -55°C; Packaging: Tape and Reel; Height: 8.7mm; Diameter: 8mm; Capacitance: 82µF; Rated Voltage (DC): 35V
footprint WCAP-PSHP_D8H8.7
simulation model 875115652006_82uF
pins: 1 P, 2 N
text: +

## 875115652007
designator C?, comment 100µF  (value not drawn)
WCAP-PSHP Aluminum Polymer Capacitor, V-Chip, SMT, D8 x H8.7mm, 100µF, 35V; Manufacturer Part Number: 875115652007; Manufacturer: Wurth Elektronik; Capacitance Tolerance: +/-20%; Dissipation Factor: 12%; Endurance: 2000h; ESR: 30mΩ; Leakage Current: 700µA; Ripple Current: 3000mA; Technical Reference: PSEE087101M035DVCTEB000; Category: Aluminum Polymer Capacitors; Match Code: WCAP-PSHP; ComponentLink1Description: Website Link; ComponentLink1URL: https://www.we-online.com/redexpert/article/875115652007?ad; ComponentLink2Description: Datasheet Link; ComponentLink2URL: https://www.we-online.com/redexpert/spec/875115652007?ad; Mount: Surface Mount; Operating Temperature Max: 105°C; Operating Temperature Min: -55°C; Packaging: Tape and Reel; Height: 8.7mm; Diameter: 8mm; Capacitance: 100µF; Rated Voltage (DC): 35V
footprint WCAP-PSHP_D8H8.7
simulation model 875115652007_100uF
pins: 1 P, 2 N
text: +

## 875115652014
designator C?, comment 39µF  (value not drawn)
WCAP-PSHP Aluminum Polymer Capacitor, V-Chip, SMT, D8 x H8.7mm, 39µF, 35V; Manufacturer Part Number: 875115652014; Manufacturer: Wurth Elektronik; Capacitance Tolerance: +/-20%; Dissipation Factor: 12%; Endurance: 5000h; ESR: 40mΩ; Leakage Current: 600µA; Ripple Current: 1800mA; Technical Reference: PSEE087390M035DVCTEE000; Category: Aluminum Polymer Capacitors; Match Code: WCAP-PSHP; ComponentLink1Description: Website Link; ComponentLink1URL: https://www.we-online.com/redexpert/article/875115652014?ad; ComponentLink2Description: Datasheet Link; ComponentLink2URL: https://www.we-online.com/redexpert/spec/875115652014?ad; Mount: Surface Mount; Operating Temperature Max: 105°C; Operating Temperature Min: -55°C; Packaging: Tape and Reel; Height: 8.7mm; Diameter: 8mm; Capacitance: 39µF; Rated Voltage (DC): 35V
footprint WCAP-PSHP_D8H8.7
simulation model 875115652014_39uF
pins: 1 P, 2 N
text: +

## 875115655003
designator C?, comment 100µF  (value not drawn)
WCAP-PSHP Aluminum Polymer Capacitor, V-Chip, SMT, D8 x H11.7mm, 100µF, 35V; Manufacturer Part Number: 875115655003; Manufacturer: Wurth Elektronik; Capacitance Tolerance: +/-20%; Dissipation Factor: 12%; Endurance: 5000h; ESR: 30mΩ; Leakage Current: 700µA; Ripple Current: 2800mA; Technical Reference: PSEE117101M035DVCTFE000; Category: Aluminum Polymer Capacitors; Match Code: WCAP-PSHP; ComponentLink1Description: Website Link; ComponentLink1URL: https://www.we-online.com/redexpert/article/875115655003?ad; ComponentLink2Description: Datasheet Link; ComponentLink2URL: https://www.we-online.com/redexpert/spec/875115655003?ad; Mount: Surface Mount; Operating Temperature Max: 105°C; Operating Temperature Min: -55°C; Packaging: Tape and Reel; Height: 11.7mm; Diameter: 8mm; Capacitance: 100µF; Rated Voltage (DC): 35V
footprint WCAP-PSHP_D8H11.7
simulation model 875115655003_100uF
pins: 1 P, 2 N
text: +

## 875115655011
designator C?, comment 22µF  (value not drawn)
WCAP-PSHP Aluminum Polymer Capacitor, V-Chip, SMT, D8 x H11.7mm, 22µF, 35V; Manufacturer Part Number: 875115655011; Manufacturer: Wurth Elektronik; Capacitance Tolerance: +/-20%; Dissipation Factor: 12%; Endurance: 5000h; ESR: 35mΩ; Leakage Current: 600µA; Ripple Current: 2300mA; Technical Reference: PSEE117220M035DVCTFE000; Category: Aluminum Polymer Capacitors; Match Code: WCAP-PSHP; ComponentLink1Description: Website Link; ComponentLink1URL: https://www.we-online.com/redexpert/article/875115655011?ad; ComponentLink2Description: Datasheet Link; ComponentLink2URL: https://www.we-online.com/redexpert/spec/875115655011?ad; Mount: Surface Mount; Operating Temperature Max: 105°C; Operating Temperature Min: -55°C; Packaging: Tape and Reel; Height: 11.7mm; Diameter: 8mm; Capacitance: 22µF; Rated Voltage (DC): 35V
footprint WCAP-PSHP_D8H11.7
simulation model 875115655011_22uF
pins: 1 P, 2 N
text: +

## 875115655013
designator C?, comment 33µF  (value not drawn)
WCAP-PSHP Aluminum Polymer Capacitor, V-Chip, SMT, D8 x H11.7mm, 33µF, 35V; Manufacturer Part Number: 875115655013; Manufacturer: Wurth Elektronik; Capacitance Tolerance: +/-20%; Dissipation Factor: 12%; Endurance: 5000h; ESR: 35mΩ; Leakage Current: 600µA; Ripple Current: 2300mA; Technical Reference: PSEE117330M035DVCTFE000; Category: Aluminum Polymer Capacitors; Match Code: WCAP-PSHP; ComponentLink1Description: Website Link; ComponentLink1URL: https://www.we-online.com/redexpert/article/875115655013?ad; ComponentLink2Description: Datasheet Link; ComponentLink2URL: https://www.we-online.com/redexpert/spec/875115655013?ad; Mount: Surface Mount; Operating Temperature Max: 105°C; Operating Temperature Min: -55°C; Packaging: Tape and Reel; Height: 11.7mm; Diameter: 8mm; Capacitance: 33µF; Rated Voltage (DC): 35V
footprint WCAP-PSHP_D8H11.7
simulation model 875115655013_33uF
pins: 1 P, 2 N
text: +

## 875115655015
designator C?, comment 56µF  (value not drawn)
WCAP-PSHP Aluminum Polymer Capacitor, V-Chip, SMT, D8 x H11.7mm, 56µF, 35V; Manufacturer Part Number: 875115655015; Manufacturer: Wurth Elektronik; Capacitance Tolerance: +/-20%; Dissipation Factor: 12%; Endurance: 5000h; ESR: 35mΩ; Leakage Current: 600µA; Ripple Current: 2300mA; Technical Reference: PSEE117560M035DVCTFE000; Category: Aluminum Polymer Capacitors; Match Code: WCAP-PSHP; ComponentLink1Description: Website Link; ComponentLink1URL: https://www.we-online.com/redexpert/article/875115655015?ad; ComponentLink2Description: Datasheet Link; ComponentLink2URL: https://www.we-online.com/redexpert/spec/875115655015?ad; Mount: Surface Mount; Operating Temperature Max: 105°C; Operating Temperature Min: -55°C; Packaging: Tape and Reel; Height: 11.7mm; Diameter: 8mm; Capacitance: 56µF; Rated Voltage (DC): 35V
footprint WCAP-PSHP_D8H11.7
simulation model 875115655015_56uF
pins: 1 P, 2 N
text: +

## 875115657008
designator C?, comment 120µF  (value not drawn)
WCAP-PSHP Aluminum Polymer Capacitor, V-Chip, SMT, D10 x H10.5mm, 120µF, 35V; Manufacturer Part Number: 875115657008; Manufacturer: Wurth Elektronik; Capacitance Tolerance: +/-20%; Dissipation Factor: 12%; Endurance: 2000h; ESR: 30mΩ; Leakage Current: 840µA; Ripple Current: 3200mA; Technical Reference: PSEF105121M035DVCTEB000; Category: Aluminum Polymer Capacitors; Match Code: WCAP-PSHP; ComponentLink1Description: Website Link; ComponentLink1URL: https://www.we-online.com/redexpert/article/875115657008?ad; ComponentLink2Description: Datasheet Link; ComponentLink2URL: https://www.we-online.com/redexpert/spec/875115657008?ad; Mount: Surface Mount; Operating Temperature Max: 105°C; Operating Temperature Min: -55°C; Packaging: Tape and Reel; Height: 10.5mm; Diameter: 10mm; Capacitance: 120µF; Rated Voltage (DC): 35V
footprint WCAP-PSHP_D10H10.5
simulation model 875115657008_120uF
pins: 1 P, 2 N
text: +

## 875115657016
designator C?, comment 68µF  (value not drawn)
WCAP-PSHP Aluminum Polymer Capacitor, V-Chip, SMT, D10 x H10.5mm, 68µF, 35V; Manufacturer Part Number: 875115657016; Manufacturer: Wurth Elektronik; Capacitance Tolerance: +/-20%; Dissipation Factor: 12%; Endurance: 5000h; ESR: 32mΩ; Leakage Current: 600µA; Ripple Current: 2500mA; Technical Reference: PSEF105680M035DVCTEE000; Category: Aluminum Polymer Capacitors; Match Code: WCAP-PSHP; ComponentLink1Description: Website Link; ComponentLink1URL: https://www.we-online.com/redexpert/article/875115657016?ad; ComponentLink2Description: Datasheet Link; ComponentLink2URL: https://www.we-online.com/redexpert/spec/875115657016?ad; Mount: Surface Mount; Operating Temperature Max: 105°C; Operating Temperature Min: -55°C; Packaging: Tape and Reel; Height: 10.5mm; Diameter: 10mm; Capacitance: 68µF; Rated Voltage (DC): 35V
footprint WCAP-PSHP_D10H10.5
simulation model 875115657016_68uF
pins: 1 P, 2 N
text: +

## 875115752001
designator C?, comment 10µF  (value not drawn)
WCAP-PSHP Aluminum Polymer Capacitor, V-Chip, SMT, D8 x H8.7mm, 10µF, 50V; Manufacturer Part Number: 875115752001; Manufacturer: Wurth Elektronik; Capacitance Tolerance: +/-20%; Dissipation Factor: 12%; Endurance: 2000h; ESR: 45mΩ; Leakage Current: 100µA; Ripple Current: 1500mA; Technical Reference: PSEE087100M050DVCTEB000; Category: Aluminum Polymer Capacitors; Match Code: WCAP-PSHP; ComponentLink1Description: Website Link; ComponentLink1URL: https://www.we-online.com/redexpert/article/875115752001?ad; ComponentLink2Description: Datasheet Link; ComponentLink2URL: https://www.we-online.com/redexpert/spec/875115752001?ad; Mount: Surface Mount; Operating Temperature Max: 105°C; Operating Temperature Min: -55°C; Packaging: Tape and Reel; Height: 8.7mm; Diameter: 8mm; Capacitance: 10µF; Rated Voltage (DC): 50V
footprint WCAP-PSHP_D8H8.7
simulation model 875115752001_10uF
pins: 1 P, 2 N
text: +

## 875115852001
designator C?, comment 10µF  (value not drawn)
WCAP-PSHP Aluminum Polymer Capacitor, V-Chip, SMT, D8 x H8.7mm, 10µF, 63V; Manufacturer Part Number: 875115852001; Manufacturer: Wurth Elektronik; Capacitance Tolerance: +/-20%; Dissipation Factor: 12%; Endurance: 2000h; ESR: 45mΩ; Leakage Current: 126µA; Ripple Current: 1500mA; Technical Reference: PSEE087100M063DVCTEB000; Category: Aluminum Polymer Capacitors; Match Code: WCAP-PSHP; ComponentLink1Description: Website Link; ComponentLink1URL: https://www.we-online.com/redexpert/article/875115852001?ad; ComponentLink2Description: Datasheet Link; ComponentLink2URL: https://www.we-online.com/redexpert/spec/875115852001?ad; Mount: Surface Mount; Operating Temperature Max: 105°C; Operating Temperature Min: -55°C; Packaging: Tape and Reel; Height: 8.7mm; Diameter: 8mm; Capacitance: 10µF; Rated Voltage (DC): 63V
footprint WCAP-PSHP_D8H8.7
simulation model 875115852001_10uF
pins: 1 P, 2 N
text: +